# Altium integrated library Silicon Labs Modems and DAAs.IntLib: 95 symbols (part 4 of 7)
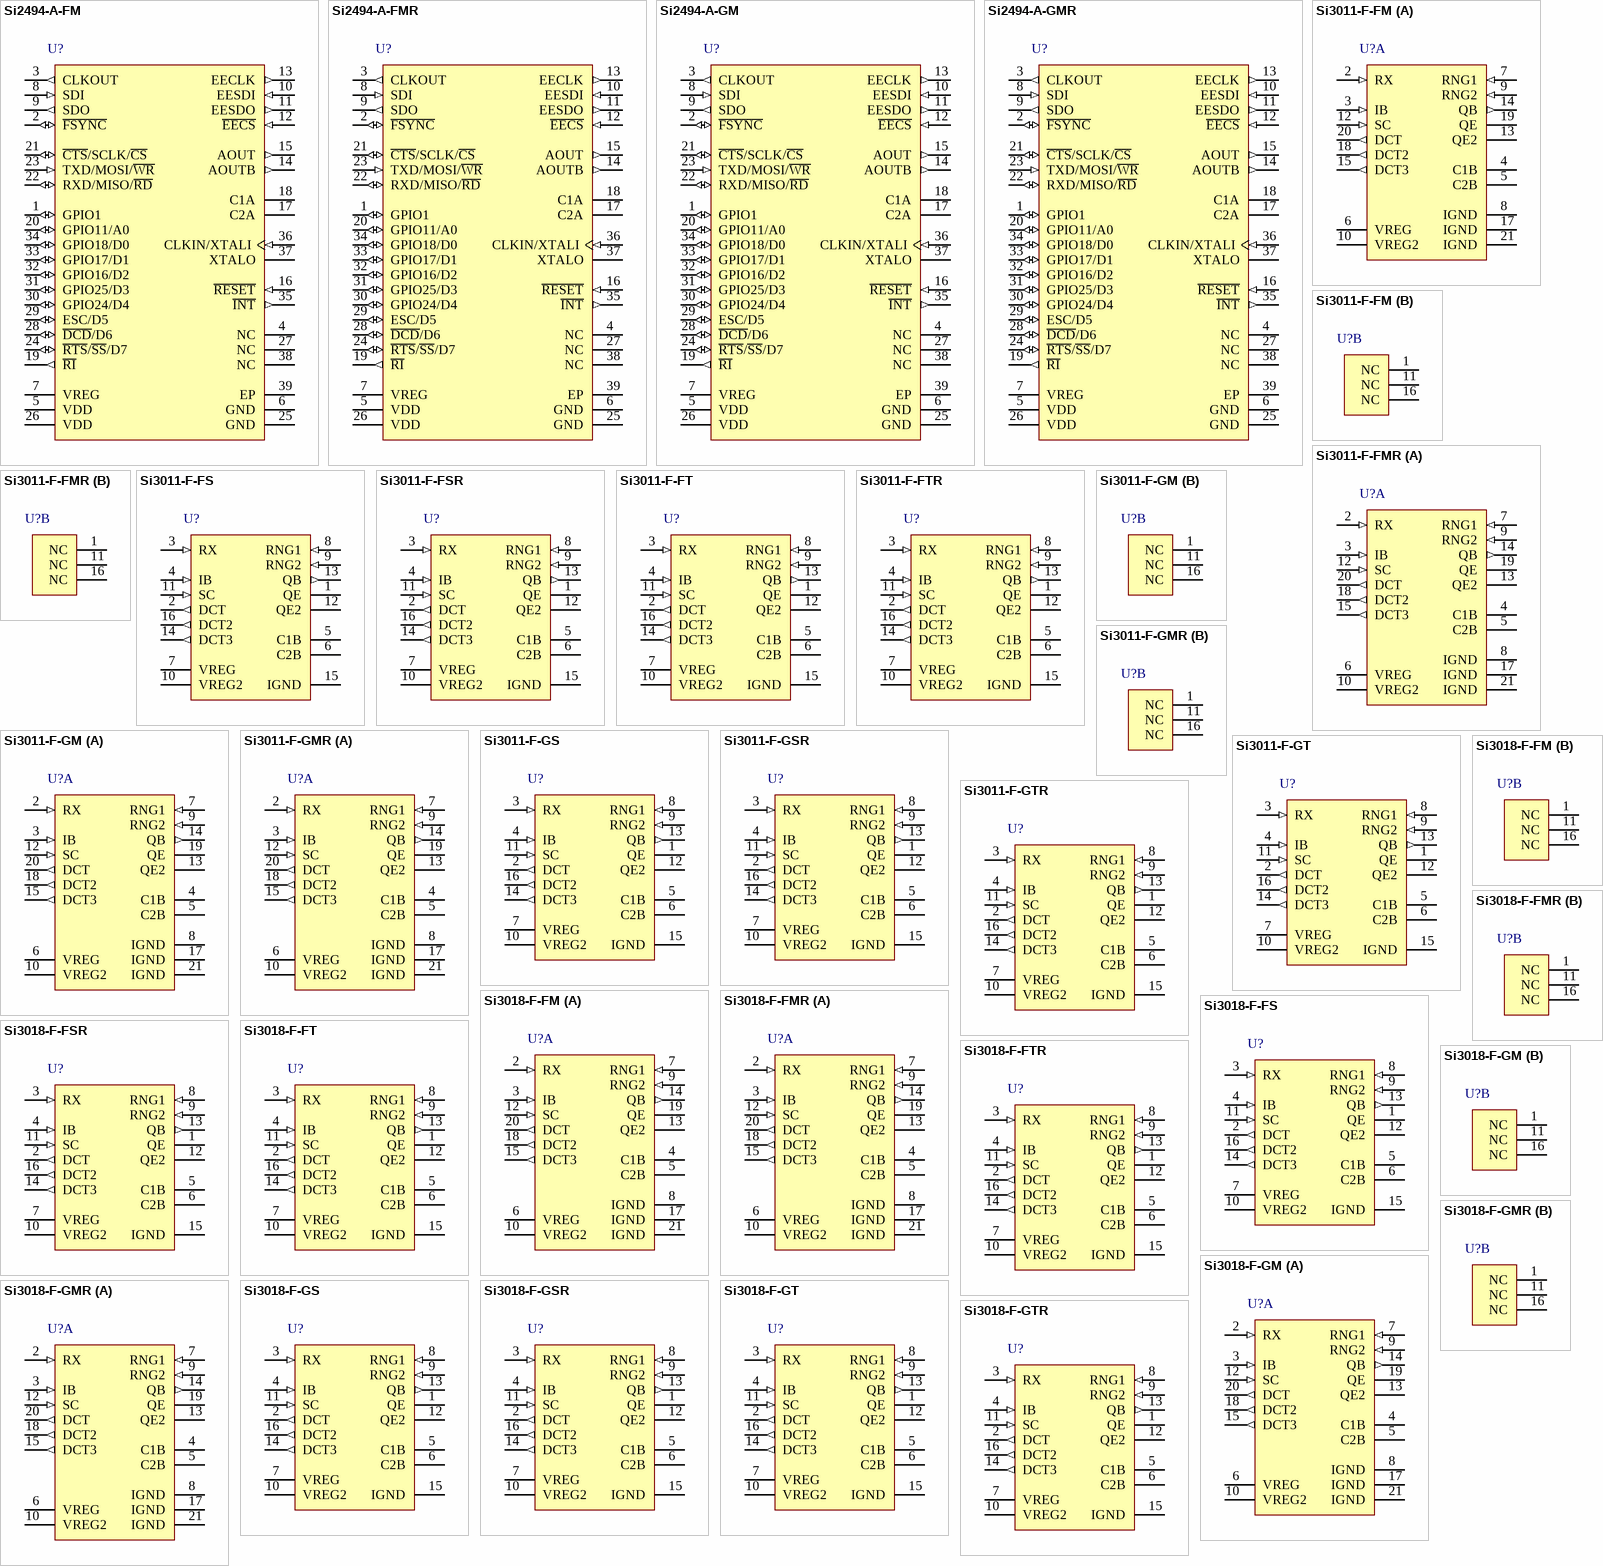
[diagram p7: symbols Si2494-A-FM to Si3018-F-GTR]

## Si3011-F-FS
designator U?
Programmable Voice DAA Solutions with Line Voltage Monitor, 0 to 70 degC, 16-pin SOIC, Tube; Manufacturer: Silicon Labs; PartNumber: Si3011-F-FS; AC Termination Settings: 2; Host Interface: GCI; PCM/SPI; Line Voltage Monitor: TRUE; Region: Global; Sub-Family: Silicon DAAs; DatasheetVersion: Rev. 1.5; PackageReference: SOIC-16-NB; PackageDescription: 16-Pin Small-Outline Integrated Circuit, Body 9.9 x 3.9 mm, Pitch 1.27 mm; Supplier 1: Digi-Key; Supplier Part Number 1: SI3011-F-FS-ND; Supplier 2: Mouser; Supplier Part Number 2: 634-SI3011-F-FS; Packing: Tube; Mounting Technology: Surface Mount; Code_JEDEC: MS-012; Code_IPC: J-STD-020; ComponentLink1Description: Manufacturer URL; ComponentLink1URL: http://www.silabs.com/; ComponentLink2Description: Datasheet; ComponentLink2URL: http://www.silabs.com/Support%20Documents/TechnicalDocs/Si3050-11-18-19.pdf; ComponentLink3Description: Package Specification; ComponentLink3URL: http://www.silabs.com/Support%20Documents/TechnicalDocs/si2401.pdf
footprint SLAB-SOIC-16-NB_N (SOIC, 16-Leads, Body 9.9x3.9mm, Pitch 1.27mm, IPC Medium Density)
footprint SLAB-SOIC-16-NB_L (SOIC, 16-Leads, Body 9.9x3.9mm, Pitch 1.27mm, IPC High Density)
footprint SLAB-SOIC-16-NB_M (SOIC, 16-Leads, Body 9.9x3.9mm, Pitch 1.27mm, IPC Low Density)
pins: 1 QE "Transistor Emitter. Connects to the emitter of Q3.", 2 DCT (out) "DC Termination. Provides dc termination to the telephone network.", 3 RX (in) "Receive Input. Serves as the receive side input from the telephone network.", 4 IB (in) "Internal Bias. Provides a bias voltage to the device.", 5 C1B "Isolation Capacitor 1B. Connects to one side of isolation capacitor C1. Used to communicate with the system-side device.", 6 C2B "Isolation Capacitor 2B. Connects to one side of isolation capacitor C2. Used to communicate with the system-side device.", 7 VREG (power) "Voltage Regulator. Connects to an external capacitor to provide bypassing for an internal power supply.", 8 RNG1 (in) "Ring 1. Connects through a resistor to the RING lead of the telephone line.", 9 RNG2 (in) "Ring 2. Connects through a resistor to the RING lead of the telephone line.", 10 VREG2 (power) "Voltage Regulator 2. Connects to an external capacitor to provide bypassing for an internal power supply.", 11 SC (in) "SC Connection. Enables external transistor network. Should be tied through a 0 ohm resistor to IGND.", 12 QE2 "Transistor Emitter 2. Connects to the emitter of Q4.", 13 QB (out) "Transistor Base. Connects to the base of transistor Q4.", 14 DCT3 (out) "DC Termination 3. Provides dc termination to the telephone network.", 15 IGND (power) "Isolated Ground.Connects to ground on the line-side interface.", 16 DCT2 (out) "DC Termination 2. Provides dc termination to the telephone network"

## Si3011-F-FSR
designator U?
Programmable Voice DAA Solutions with Line Voltage Monitor, 0 to 70 degC, 16-pin SOIC, Tape and Reel; Manufacturer: Silicon Labs; PartNumber: Si3011-F-FSR; AC Termination Settings: 2; Host Interface: GCI; PCM/SPI; Line Voltage Monitor: TRUE; Region: Global; Sub-Family: Silicon DAAs; DatasheetVersion: Rev. 1.5; PackageReference: SOIC-16-NB; PackageDescription: 16-Pin Small-Outline Integrated Circuit, Body 9.9 x 3.9 mm, Pitch 1.27 mm; Supplier 1: Digi-Key; Supplier Part Number 1: SI3011-F-FSR-ND; Supplier 2: Mouser; Supplier Part Number 2: 634-SI3011-F-FSR; Packing: Tape and Reel; Mounting Technology: Surface Mount; Code_JEDEC: MS-012; Code_IPC: J-STD-020; ComponentLink1Description: Manufacturer URL; ComponentLink1URL: http://www.silabs.com/; ComponentLink2Description: Datasheet; ComponentLink2URL: http://www.silabs.com/Support%20Documents/TechnicalDocs/Si3050-11-18-19.pdf; ComponentLink3Description: Package Specification; ComponentLink3URL: http://www.silabs.com/Support%20Documents/TechnicalDocs/si2401.pdf
footprint SLAB-SOIC-16-NB_N (SOIC, 16-Leads, Body 9.9x3.9mm, Pitch 1.27mm, IPC Medium Density)
footprint SLAB-SOIC-16-NB_L (SOIC, 16-Leads, Body 9.9x3.9mm, Pitch 1.27mm, IPC High Density)
footprint SLAB-SOIC-16-NB_M (SOIC, 16-Leads, Body 9.9x3.9mm, Pitch 1.27mm, IPC Low Density)
pins: 1 QE "Transistor Emitter. Connects to the emitter of Q3.", 2 DCT (out) "DC Termination. Provides dc termination to the telephone network.", 3 RX (in) "Receive Input. Serves as the receive side input from the telephone network.", 4 IB (in) "Internal Bias. Provides a bias voltage to the device.", 5 C1B "Isolation Capacitor 1B. Connects to one side of isolation capacitor C1. Used to communicate with the system-side device.", 6 C2B "Isolation Capacitor 2B. Connects to one side of isolation capacitor C2. Used to communicate with the system-side device.", 7 VREG (power) "Voltage Regulator. Connects to an external capacitor to provide bypassing for an internal power supply.", 8 RNG1 (in) "Ring 1. Connects through a resistor to the RING lead of the telephone line.", 9 RNG2 (in) "Ring 2. Connects through a resistor to the RING lead of the telephone line.", 10 VREG2 (power) "Voltage Regulator 2. Connects to an external capacitor to provide bypassing for an internal power supply.", 11 SC (in) "SC Connection. Enables external transistor network. Should be tied through a 0 ohm resistor to IGND.", 12 QE2 "Transistor Emitter 2. Connects to the emitter of Q4.", 13 QB (out) "Transistor Base. Connects to the base of transistor Q4.", 14 DCT3 (out) "DC Termination 3. Provides dc termination to the telephone network.", 15 IGND (power) "Isolated Ground.Connects to ground on the line-side interface.", 16 DCT2 (out) "DC Termination 2. Provides dc termination to the telephone network"

## Si3011-F-FT
designator U?
Programmable Voice DAA Solutions with Line Voltage Monitor, 0 to 70 degC, 16-pin SOP, Tube; Manufacturer: Silicon Labs; PartNumber: Si3011-F-FT; AC Termination Settings: 2; Host Interface: GCI; PCM/SPI; Line Voltage Monitor: TRUE; Region: Global; Sub-Family: Silicon DAAs; DatasheetVersion: Rev. 1.5; PackageReference: TSSOP-16; PackageDescription: 16-Pin Thin Shrink Small-Outline Package, Body 5 x 4.4 mm, Pitch 0.65 mm; Supplier 1: Mouser; Supplier Part Number 1: 634-SI3011-F-FT; Packing: Tube; Mounting Technology: Surface Mount; Code_JEDEC: MO-153; Code_IPC: J-STD-020C; ComponentLink1Description: Manufacturer URL; ComponentLink1URL: http://www.silabs.com/; ComponentLink2Description: Datasheet; ComponentLink2URL: http://www.silabs.com/Support%20Documents/TechnicalDocs/Si3050-11-18-19.pdf; ComponentLink3Description: Package Specification; ComponentLink3URL: http://www.silabs.com/Support%20Documents/TechnicalDocs/Si53360.pdf
footprint SLAB-TSSOP-16_N (SOP, 16-Leads, Body 5.1x4.5mm, Pitch 0.65mm, IPC Medium Density)
footprint SLAB-TSSOP-16_L (SOP, 16-Leads, Body 5.1x4.5mm, Pitch 0.65mm, IPC High Density)
footprint SLAB-TSSOP-16_M (SOP, 16-Leads, Body 5.1x4.5mm, Pitch 0.65mm, IPC Low Density)
pins: 1 QE "Transistor Emitter. Connects to the emitter of Q3.", 2 DCT (out) "DC Termination. Provides dc termination to the telephone network.", 3 RX (in) "Receive Input. Serves as the receive side input from the telephone network.", 4 IB (in) "Internal Bias. Provides a bias voltage to the device.", 5 C1B "Isolation Capacitor 1B. Connects to one side of isolation capacitor C1. Used to communicate with the system-side device.", 6 C2B "Isolation Capacitor 2B. Connects to one side of isolation capacitor C2. Used to communicate with the system-side device.", 7 VREG (power) "Voltage Regulator. Connects to an external capacitor to provide bypassing for an internal power supply.", 8 RNG1 (in) "Ring 1. Connects through a resistor to the RING lead of the telephone line.", 9 RNG2 (in) "Ring 2. Connects through a resistor to the RING lead of the telephone line.", 10 VREG2 (power) "Voltage Regulator 2. Connects to an external capacitor to provide bypassing for an internal power supply.", 11 SC (in) "SC Connection. Enables external transistor network. Should be tied through a 0 ohm resistor to IGND.", 12 QE2 "Transistor Emitter 2. Connects to the emitter of Q4.", 13 QB (out) "Transistor Base. Connects to the base of transistor Q4.", 14 DCT3 (out) "DC Termination 3. Provides dc termination to the telephone network.", 15 IGND (power) "Isolated Ground.Connects to ground on the line-side interface.", 16 DCT2 (out) "DC Termination 2. Provides dc termination to the telephone network"

## Si3011-F-FTR
designator U?
Programmable Voice DAA Solutions with Line Voltage Monitor, 0 to 70 degC, 16-pin SOP, Tape and Reel; Manufacturer: Silicon Labs; PartNumber: Si3011-F-FTR; AC Termination Settings: 2; Host Interface: GCI; PCM/SPI; Line Voltage Monitor: TRUE; Region: Global; Sub-Family: Silicon DAAs; DatasheetVersion: Rev. 1.5; PackageReference: TSSOP-16; PackageDescription: 16-Pin Thin Shrink Small-Outline Package, Body 5 x 4.4 mm, Pitch 0.65 mm; Packing: Tape and Reel; Mounting Technology: Surface Mount; Code_JEDEC: MO-153; Code_IPC: J-STD-020C; ComponentLink1Description: Manufacturer URL; ComponentLink1URL: http://www.silabs.com/; ComponentLink2Description: Datasheet; ComponentLink2URL: http://www.silabs.com/Support%20Documents/TechnicalDocs/Si3050-11-18-19.pdf; ComponentLink3Description: Package Specification; ComponentLink3URL: http://www.silabs.com/Support%20Documents/TechnicalDocs/Si53360.pdf
footprint SLAB-TSSOP-16_N (SOP, 16-Leads, Body 5.1x4.5mm, Pitch 0.65mm, IPC Medium Density)
footprint SLAB-TSSOP-16_L (SOP, 16-Leads, Body 5.1x4.5mm, Pitch 0.65mm, IPC High Density)
footprint SLAB-TSSOP-16_M (SOP, 16-Leads, Body 5.1x4.5mm, Pitch 0.65mm, IPC Low Density)
pins: 1 QE "Transistor Emitter. Connects to the emitter of Q3.", 2 DCT (out) "DC Termination. Provides dc termination to the telephone network.", 3 RX (in) "Receive Input. Serves as the receive side input from the telephone network.", 4 IB (in) "Internal Bias. Provides a bias voltage to the device.", 5 C1B "Isolation Capacitor 1B. Connects to one side of isolation capacitor C1. Used to communicate with the system-side device.", 6 C2B "Isolation Capacitor 2B. Connects to one side of isolation capacitor C2. Used to communicate with the system-side device.", 7 VREG (power) "Voltage Regulator. Connects to an external capacitor to provide bypassing for an internal power supply.", 8 RNG1 (in) "Ring 1. Connects through a resistor to the RING lead of the telephone line.", 9 RNG2 (in) "Ring 2. Connects through a resistor to the RING lead of the telephone line.", 10 VREG2 (power) "Voltage Regulator 2. Connects to an external capacitor to provide bypassing for an internal power supply.", 11 SC (in) "SC Connection. Enables external transistor network. Should be tied through a 0 ohm resistor to IGND.", 12 QE2 "Transistor Emitter 2. Connects to the emitter of Q4.", 13 QB (out) "Transistor Base. Connects to the base of transistor Q4.", 14 DCT3 (out) "DC Termination 3. Provides dc termination to the telephone network.", 15 IGND (power) "Isolated Ground.Connects to ground on the line-side interface.", 16 DCT2 (out) "DC Termination 2. Provides dc termination to the telephone network"

## Si3011-F-GM
designator U?
Programmable Voice DAA Solutions with Line Voltage Monitor, -40 to 85 degC, 20-pin QFN, Tube; Manufacturer: Silicon Labs; PartNumber: Si3011-F-GM; AC Termination Settings: 2; Host Interface: GCI; PCM/SPI; Line Voltage Monitor: TRUE; Region: Global; Sub-Family: Silicon DAAs; DatasheetVersion: Rev. 1.5; PackageReference: QFN-20; PackageDescription: 20-Pin Quad-Flat No-Leads Package, Body 3 x 3 mm, Pitch 0.5 mm; Packing: Tube; Mounting Technology: Surface Mount; Code_IPC: J-STD-020; ComponentLink1Description: Manufacturer URL; ComponentLink1URL: http://www.silabs.com/; ComponentLink2Description: Datasheet; ComponentLink2URL: http://www.silabs.com/Support%20Documents/TechnicalDocs/Si3050-11-18-19.pdf; ComponentLink3Description: Package Specification; ComponentLink3URL: http://www.silabs.com/Support%20Documents/TechnicalDocs/C8051F99x.pdf
footprint SLAB-QFN-20-1700x1700TP_V (QFN, 20-Leads, Body 3x3mm, Pitch 0.5mm, Thermal Pad 1.7x1.7mm)
part A pins: 2 RX (in) "Receive Input. Serves as the receive side input from the telephone network.", 3 IB (in) "Internal Bias. Provides a bias voltage to the device.", 4 C1B "Isolation Capacitor 1B. Connects to one side of isolation capacitor C1. Used to communicate with the system-side device.", 5 C2B "Isolation Capacitor 2B. Connects to one side of isolation capacitor C2. Used to communicate with the system-side device.", 6 VREG (power) "Voltage Regulator. Connects to an external capacitor to provide bypassing for an internal power supply.", 7 RNG1 (in) "Ring 1. Connects through a resistor to the TIP lead of the telephone line. Provides the ring and caller ID signals to the DAA.", 8 IGND (power) "Isolated Ground.Connects to ground on the line-side interface.", 9 RNG2 (in) "Ring 2. Connects through a resistor to the RING lead of the telephone line. Provides the ring and caller ID signals to the DAA.", 10 VREG2 (power) "Voltage Regulator 2. Connects to an external capacitor to provide bypassing for an internal power supply.", 12 SC (in) "SC Connection. Enables external transistor network. Should be tied through a 0 ohm resistor to IGND.", 13 QE2 "Transistor Emitter 2. Connects to the emitter of Q4.", 14 QB (out) "Transistor Base. Connects to the base of transistor Q4.", 15 DCT3 (out) "DC Termination 3. Provides dc termination to the telephone network.", 17 IGND (power) "Isolated Ground.Connects to ground on the line-side interface.", 18 DCT2 (out) "DC Termination 2. Provides dc termination to the telephone network", 19 QE "Transistor Emitter. Connects to the emitter of Q3.", 20 DCT (out) "DC Termination. Provides dc termination to the telephone network.", 21 IGND (power)
part B pins: 1 NC "No connect.", 11 NC "No connect.", 16 NC "No connect."

## Si3011-F-GMR
designator U?
Programmable Voice DAA Solutions with Line Voltage Monitor, -40 to 85 degC, 20-pin QFN, Tape and Reel; Manufacturer: Silicon Labs; PartNumber: Si3011-F-GMR; AC Termination Settings: 2; Host Interface: GCI; PCM/SPI; Line Voltage Monitor: TRUE; Region: Global; Sub-Family: Silicon DAAs; DatasheetVersion: Rev. 1.5; PackageReference: QFN-20; PackageDescription: 20-Pin Quad-Flat No-Leads Package, Body 3 x 3 mm, Pitch 0.5 mm; Packing: Tape and Reel; Mounting Technology: Surface Mount; Code_IPC: J-STD-020; ComponentLink1Description: Manufacturer URL; ComponentLink1URL: http://www.silabs.com/; ComponentLink2Description: Datasheet; ComponentLink2URL: http://www.silabs.com/Support%20Documents/TechnicalDocs/Si3050-11-18-19.pdf; ComponentLink3Description: Package Specification; ComponentLink3URL: http://www.silabs.com/Support%20Documents/TechnicalDocs/C8051F99x.pdf
footprint SLAB-QFN-20-1700x1700TP_V (QFN, 20-Leads, Body 3x3mm, Pitch 0.5mm, Thermal Pad 1.7x1.7mm)
part A pins: 2 RX (in) "Receive Input. Serves as the receive side input from the telephone network.", 3 IB (in) "Internal Bias. Provides a bias voltage to the device.", 4 C1B "Isolation Capacitor 1B. Connects to one side of isolation capacitor C1. Used to communicate with the system-side device.", 5 C2B "Isolation Capacitor 2B. Connects to one side of isolation capacitor C2. Used to communicate with the system-side device.", 6 VREG (power) "Voltage Regulator. Connects to an external capacitor to provide bypassing for an internal power supply.", 7 RNG1 (in) "Ring 1. Connects through a resistor to the TIP lead of the telephone line. Provides the ring and caller ID signals to the DAA.", 8 IGND (power) "Isolated Ground.Connects to ground on the line-side interface.", 9 RNG2 (in) "Ring 2. Connects through a resistor to the RING lead of the telephone line. Provides the ring and caller ID signals to the DAA.", 10 VREG2 (power) "Voltage Regulator 2. Connects to an external capacitor to provide bypassing for an internal power supply.", 12 SC (in) "SC Connection. Enables external transistor network. Should be tied through a 0 ohm resistor to IGND.", 13 QE2 "Transistor Emitter 2. Connects to the emitter of Q4.", 14 QB (out) "Transistor Base. Connects to the base of transistor Q4.", 15 DCT3 (out) "DC Termination 3. Provides dc termination to the telephone network.", 17 IGND (power) "Isolated Ground.Connects to ground on the line-side interface.", 18 DCT2 (out) "DC Termination 2. Provides dc termination to the telephone network", 19 QE "Transistor Emitter. Connects to the emitter of Q3.", 20 DCT (out) "DC Termination. Provides dc termination to the telephone network.", 21 IGND (power)
part B pins: 1 NC "No connect.", 11 NC "No connect.", 16 NC "No connect."

## Si3011-F-GS
designator U?
Programmable Voice DAA Solutions with Line Voltage Monitor, -40 to 85 degC, 16-pin SOIC, Tube; Manufacturer: Silicon Labs; PartNumber: Si3011-F-GS; AC Termination Settings: 2; Host Interface: GCI; PCM/SPI; Line Voltage Monitor: TRUE; Region: Global; Sub-Family: Silicon DAAs; DatasheetVersion: Rev. 1.5; PackageReference: SOIC-16-NB; PackageDescription: 16-Pin Small-Outline Integrated Circuit, Body 9.9 x 3.9 mm, Pitch 1.27 mm; Packing: Tube; Mounting Technology: Surface Mount; Code_JEDEC: MS-012; Code_IPC: J-STD-020; ComponentLink1Description: Manufacturer URL; ComponentLink1URL: http://www.silabs.com/; ComponentLink2Description: Datasheet; ComponentLink2URL: http://www.silabs.com/Support%20Documents/TechnicalDocs/Si3050-11-18-19.pdf; ComponentLink3Description: Package Specification; ComponentLink3URL: http://www.silabs.com/Support%20Documents/TechnicalDocs/si2401.pdf
footprint SLAB-SOIC-16-NB_N (SOIC, 16-Leads, Body 9.9x3.9mm, Pitch 1.27mm, IPC Medium Density)
footprint SLAB-SOIC-16-NB_L (SOIC, 16-Leads, Body 9.9x3.9mm, Pitch 1.27mm, IPC High Density)
footprint SLAB-SOIC-16-NB_M (SOIC, 16-Leads, Body 9.9x3.9mm, Pitch 1.27mm, IPC Low Density)
pins: 1 QE "Transistor Emitter. Connects to the emitter of Q3.", 2 DCT (out) "DC Termination. Provides dc termination to the telephone network.", 3 RX (in) "Receive Input. Serves as the receive side input from the telephone network.", 4 IB (in) "Internal Bias. Provides a bias voltage to the device.", 5 C1B "Isolation Capacitor 1B. Connects to one side of isolation capacitor C1. Used to communicate with the system-side device.", 6 C2B "Isolation Capacitor 2B. Connects to one side of isolation capacitor C2. Used to communicate with the system-side device.", 7 VREG (power) "Voltage Regulator. Connects to an external capacitor to provide bypassing for an internal power supply.", 8 RNG1 (in) "Ring 1. Connects through a resistor to the RING lead of the telephone line.", 9 RNG2 (in) "Ring 2. Connects through a resistor to the RING lead of the telephone line.", 10 VREG2 (power) "Voltage Regulator 2. Connects to an external capacitor to provide bypassing for an internal power supply.", 11 SC (in) "SC Connection. Enables external transistor network. Should be tied through a 0 ohm resistor to IGND.", 12 QE2 "Transistor Emitter 2. Connects to the emitter of Q4.", 13 QB (out) "Transistor Base. Connects to the base of transistor Q4.", 14 DCT3 (out) "DC Termination 3. Provides dc termination to the telephone network.", 15 IGND (power) "Isolated Ground.Connects to ground on the line-side interface.", 16 DCT2 (out) "DC Termination 2. Provides dc termination to the telephone network"

## Si3011-F-GSR
designator U?
Programmable Voice DAA Solutions with Line Voltage Monitor, -40 to 85 degC, 16-pin SOIC, Tape and Reel; Manufacturer: Silicon Labs; PartNumber: Si3011-F-GSR; AC Termination Settings: 2; Host Interface: GCI; PCM/SPI; Line Voltage Monitor: TRUE; Region: Global; Sub-Family: Silicon DAAs; DatasheetVersion: Rev. 1.5; PackageReference: SOIC-16-NB; PackageDescription: 16-Pin Small-Outline Integrated Circuit, Body 9.9 x 3.9 mm, Pitch 1.27 mm; Packing: Tape and Reel; Mounting Technology: Surface Mount; Code_JEDEC: MS-012; Code_IPC: J-STD-020; ComponentLink1Description: Manufacturer URL; ComponentLink1URL: http://www.silabs.com/; ComponentLink2Description: Datasheet; ComponentLink2URL: http://www.silabs.com/Support%20Documents/TechnicalDocs/Si3050-11-18-19.pdf; ComponentLink3Description: Package Specification; ComponentLink3URL: http://www.silabs.com/Support%20Documents/TechnicalDocs/si2401.pdf
footprint SLAB-SOIC-16-NB_N (SOIC, 16-Leads, Body 9.9x3.9mm, Pitch 1.27mm, IPC Medium Density)
footprint SLAB-SOIC-16-NB_L (SOIC, 16-Leads, Body 9.9x3.9mm, Pitch 1.27mm, IPC High Density)
footprint SLAB-SOIC-16-NB_M (SOIC, 16-Leads, Body 9.9x3.9mm, Pitch 1.27mm, IPC Low Density)
pins: 1 QE "Transistor Emitter. Connects to the emitter of Q3.", 2 DCT (out) "DC Termination. Provides dc termination to the telephone network.", 3 RX (in) "Receive Input. Serves as the receive side input from the telephone network.", 4 IB (in) "Internal Bias. Provides a bias voltage to the device.", 5 C1B "Isolation Capacitor 1B. Connects to one side of isolation capacitor C1. Used to communicate with the system-side device.", 6 C2B "Isolation Capacitor 2B. Connects to one side of isolation capacitor C2. Used to communicate with the system-side device.", 7 VREG (power) "Voltage Regulator. Connects to an external capacitor to provide bypassing for an internal power supply.", 8 RNG1 (in) "Ring 1. Connects through a resistor to the RING lead of the telephone line.", 9 RNG2 (in) "Ring 2. Connects through a resistor to the RING lead of the telephone line.", 10 VREG2 (power) "Voltage Regulator 2. Connects to an external capacitor to provide bypassing for an internal power supply.", 11 SC (in) "SC Connection. Enables external transistor network. Should be tied through a 0 ohm resistor to IGND.", 12 QE2 "Transistor Emitter 2. Connects to the emitter of Q4.", 13 QB (out) "Transistor Base. Connects to the base of transistor Q4.", 14 DCT3 (out) "DC Termination 3. Provides dc termination to the telephone network.", 15 IGND (power) "Isolated Ground.Connects to ground on the line-side interface.", 16 DCT2 (out) "DC Termination 2. Provides dc termination to the telephone network"

## Si3011-F-GT
designator U?
Programmable Voice DAA Solutions with Line Voltage Monitor, -40 to 85 degC, 16-pin SOP, Tube; Manufacturer: Silicon Labs; PartNumber: Si3011-F-GT; AC Termination Settings: 2; Host Interface: GCI; PCM/SPI; Line Voltage Monitor: TRUE; Region: Global; Sub-Family: Silicon DAAs; DatasheetVersion: Rev. 1.5; PackageReference: TSSOP-16; PackageDescription: 16-Pin Thin Shrink Small-Outline Package, Body 5 x 4.4 mm, Pitch 0.65 mm; Packing: Tube; Mounting Technology: Surface Mount; Code_JEDEC: MO-153; Code_IPC: J-STD-020C; ComponentLink1Description: Manufacturer URL; ComponentLink1URL: http://www.silabs.com/; ComponentLink2Description: Datasheet; ComponentLink2URL: http://www.silabs.com/Support%20Documents/TechnicalDocs/Si3050-11-18-19.pdf; ComponentLink3Description: Package Specification; ComponentLink3URL: http://www.silabs.com/Support%20Documents/TechnicalDocs/Si53360.pdf
footprint SLAB-TSSOP-16_N (SOP, 16-Leads, Body 5.1x4.5mm, Pitch 0.65mm, IPC Medium Density)
footprint SLAB-TSSOP-16_L (SOP, 16-Leads, Body 5.1x4.5mm, Pitch 0.65mm, IPC High Density)
footprint SLAB-TSSOP-16_M (SOP, 16-Leads, Body 5.1x4.5mm, Pitch 0.65mm, IPC Low Density)
pins: 1 QE "Transistor Emitter. Connects to the emitter of Q3.", 2 DCT (out) "DC Termination. Provides dc termination to the telephone network.", 3 RX (in) "Receive Input. Serves as the receive side input from the telephone network.", 4 IB (in) "Internal Bias. Provides a bias voltage to the device.", 5 C1B "Isolation Capacitor 1B. Connects to one side of isolation capacitor C1. Used to communicate with the system-side device.", 6 C2B "Isolation Capacitor 2B. Connects to one side of isolation capacitor C2. Used to communicate with the system-side device.", 7 VREG (power) "Voltage Regulator. Connects to an external capacitor to provide bypassing for an internal power supply.", 8 RNG1 (in) "Ring 1. Connects through a resistor to the RING lead of the telephone line.", 9 RNG2 (in) "Ring 2. Connects through a resistor to the RING lead of the telephone line.", 10 VREG2 (power) "Voltage Regulator 2. Connects to an external capacitor to provide bypassing for an internal power supply.", 11 SC (in) "SC Connection. Enables external transistor network. Should be tied through a 0 ohm resistor to IGND.", 12 QE2 "Transistor Emitter 2. Connects to the emitter of Q4.", 13 QB (out) "Transistor Base. Connects to the base of transistor Q4.", 14 DCT3 (out) "DC Termination 3. Provides dc termination to the telephone network.", 15 IGND (power) "Isolated Ground.Connects to ground on the line-side interface.", 16 DCT2 (out) "DC Termination 2. Provides dc termination to the telephone network"

## Si3011-F-GTR
designator U?
Programmable Voice DAA Solutions with Line Voltage Monitor, -40 to 85 degC, 16-pin SOP, Tape and Reel; Manufacturer: Silicon Labs; PartNumber: Si3011-F-GTR; AC Termination Settings: 2; Host Interface: GCI; PCM/SPI; Line Voltage Monitor: TRUE; Region: Global; Sub-Family: Silicon DAAs; DatasheetVersion: Rev. 1.5; PackageReference: TSSOP-16; PackageDescription: 16-Pin Thin Shrink Small-Outline Package, Body 5 x 4.4 mm, Pitch 0.65 mm; Packing: Tape and Reel; Mounting Technology: Surface Mount; Code_JEDEC: MO-153; Code_IPC: J-STD-020C; ComponentLink1Description: Manufacturer URL; ComponentLink1URL: http://www.silabs.com/; ComponentLink2Description: Datasheet; ComponentLink2URL: http://www.silabs.com/Support%20Documents/TechnicalDocs/Si3050-11-18-19.pdf; ComponentLink3Description: Package Specification; ComponentLink3URL: http://www.silabs.com/Support%20Documents/TechnicalDocs/Si53360.pdf
footprint SLAB-TSSOP-16_N (SOP, 16-Leads, Body 5.1x4.5mm, Pitch 0.65mm, IPC Medium Density)
footprint SLAB-TSSOP-16_L (SOP, 16-Leads, Body 5.1x4.5mm, Pitch 0.65mm, IPC High Density)
footprint SLAB-TSSOP-16_M (SOP, 16-Leads, Body 5.1x4.5mm, Pitch 0.65mm, IPC Low Density)
pins: 1 QE "Transistor Emitter. Connects to the emitter of Q3.", 2 DCT (out) "DC Termination. Provides dc termination to the telephone network.", 3 RX (in) "Receive Input. Serves as the receive side input from the telephone network.", 4 IB (in) "Internal Bias. Provides a bias voltage to the device.", 5 C1B "Isolation Capacitor 1B. Connects to one side of isolation capacitor C1. Used to communicate with the system-side device.", 6 C2B "Isolation Capacitor 2B. Connects to one side of isolation capacitor C2. Used to communicate with the system-side device.", 7 VREG (power) "Voltage Regulator. Connects to an external capacitor to provide bypassing for an internal power supply.", 8 RNG1 (in) "Ring 1. Connects through a resistor to the RING lead of the telephone line.", 9 RNG2 (in) "Ring 2. Connects through a resistor to the RING lead of the telephone line.", 10 VREG2 (power) "Voltage Regulator 2. Connects to an external capacitor to provide bypassing for an internal power supply.", 11 SC (in) "SC Connection. Enables external transistor network. Should be tied through a 0 ohm resistor to IGND.", 12 QE2 "Transistor Emitter 2. Connects to the emitter of Q4.", 13 QB (out) "Transistor Base. Connects to the base of transistor Q4.", 14 DCT3 (out) "DC Termination 3. Provides dc termination to the telephone network.", 15 IGND (power) "Isolated Ground.Connects to ground on the line-side interface.", 16 DCT2 (out) "DC Termination 2. Provides dc termination to the telephone network"

## Si3018-F-FM
designator U?
Programmable Voice DAA Solutions with Line Voltage Monitor, 0 to 70 degC, 20-pin QFN, Tube; Manufacturer: Silicon Labs; PartNumber: Si3018-F-FM; AC Termination Settings: 4; Host Interface: GCI; PCM/SPI; Line Voltage Monitor: TRUE; Region: Global; Sub-Family: Silicon DAAs; DatasheetVersion: Rev. 1.5; PackageReference: QFN-20; PackageDescription: 20-Pin Quad-Flat No-Leads Package, Body 3 x 3 mm, Pitch 0.5 mm; Packing: Tube; Mounting Technology: Surface Mount; Code_IPC: J-STD-020; ComponentLink1Description: Manufacturer URL; ComponentLink1URL: http://www.silabs.com/; ComponentLink2Description: Datasheet; ComponentLink2URL: http://www.silabs.com/Support%20Documents/TechnicalDocs/Si3050-11-18-19.pdf; ComponentLink3Description: Package Specification; ComponentLink3URL: http://www.silabs.com/Support%20Documents/TechnicalDocs/C8051F99x.pdf
footprint SLAB-QFN-20-1700x1700TP_V (QFN, 20-Leads, Body 3x3mm, Pitch 0.5mm, Thermal Pad 1.7x1.7mm)
part A pins: 2 RX (in) "Receive Input. Serves as the receive side input from the telephone network.", 3 IB (in) "Internal Bias. Provides a bias voltage to the device.", 4 C1B "Isolation Capacitor 1B. Connects to one side of isolation capacitor C1. Used to communicate with the system-side device.", 5 C2B "Isolation Capacitor 2B. Connects to one side of isolation capacitor C2. Used to communicate with the system-side device.", 6 VREG (power) "Voltage Regulator. Connects to an external capacitor to provide bypassing for an internal power supply.", 7 RNG1 (in) "Ring 1. Connects through a resistor to the TIP lead of the telephone line. Provides the ring and caller ID signals to the DAA.", 8 IGND (power) "Isolated Ground.Connects to ground on the line-side interface.", 9 RNG2 (in) "Ring 2. Connects through a resistor to the RING lead of the telephone line. Provides the ring and caller ID signals to the DAA.", 10 VREG2 (power) "Voltage Regulator 2. Connects to an external capacitor to provide bypassing for an internal power supply.", 12 SC (in) "SC Connection. Enables external transistor network. Should be tied through a 0 ohm resistor to IGND.", 13 QE2 "Transistor Emitter 2. Connects to the emitter of Q4.", 14 QB (out) "Transistor Base. Connects to the base of transistor Q4.", 15 DCT3 (out) "DC Termination 3. Provides dc termination to the telephone network.", 17 IGND (power) "Isolated Ground.Connects to ground on the line-side interface.", 18 DCT2 (out) "DC Termination 2. Provides dc termination to the telephone network", 19 QE "Transistor Emitter. Connects to the emitter of Q3.", 20 DCT (out) "DC Termination. Provides dc termination to the telephone network.", 21 IGND (power)
part B pins: 1 NC "No connect.", 11 NC "No connect.", 16 NC "No connect."

## Si3018-F-FMR
designator U?
Programmable Voice DAA Solutions with Line Voltage Monitor, 0 to 70 degC, 20-pin QFN, Tape and Reel; Manufacturer: Silicon Labs; PartNumber: Si3018-F-FMR; AC Termination Settings: 4; Host Interface: GCI; PCM/SPI; Line Voltage Monitor: TRUE; Region: Global; Sub-Family: Silicon DAAs; DatasheetVersion: Rev. 1.5; PackageReference: QFN-20; PackageDescription: 20-Pin Quad-Flat No-Leads Package, Body 3 x 3 mm, Pitch 0.5 mm; Packing: Tape and Reel; Mounting Technology: Surface Mount; Code_IPC: J-STD-020; ComponentLink1Description: Manufacturer URL; ComponentLink1URL: http://www.silabs.com/; ComponentLink2Description: Datasheet; ComponentLink2URL: http://www.silabs.com/Support%20Documents/TechnicalDocs/Si3050-11-18-19.pdf; ComponentLink3Description: Package Specification; ComponentLink3URL: http://www.silabs.com/Support%20Documents/TechnicalDocs/C8051F99x.pdf
footprint SLAB-QFN-20-1700x1700TP_V (QFN, 20-Leads, Body 3x3mm, Pitch 0.5mm, Thermal Pad 1.7x1.7mm)
part A pins: 2 RX (in) "Receive Input. Serves as the receive side input from the telephone network.", 3 IB (in) "Internal Bias. Provides a bias voltage to the device.", 4 C1B "Isolation Capacitor 1B. Connects to one side of isolation capacitor C1. Used to communicate with the system-side device.", 5 C2B "Isolation Capacitor 2B. Connects to one side of isolation capacitor C2. Used to communicate with the system-side device.", 6 VREG (power) "Voltage Regulator. Connects to an external capacitor to provide bypassing for an internal power supply.", 7 RNG1 (in) "Ring 1. Connects through a resistor to the TIP lead of the telephone line. Provides the ring and caller ID signals to the DAA.", 8 IGND (power) "Isolated Ground.Connects to ground on the line-side interface.", 9 RNG2 (in) "Ring 2. Connects through a resistor to the RING lead of the telephone line. Provides the ring and caller ID signals to the DAA.", 10 VREG2 (power) "Voltage Regulator 2. Connects to an external capacitor to provide bypassing for an internal power supply.", 12 SC (in) "SC Connection. Enables external transistor network. Should be tied through a 0 ohm resistor to IGND.", 13 QE2 "Transistor Emitter 2. Connects to the emitter of Q4.", 14 QB (out) "Transistor Base. Connects to the base of transistor Q4.", 15 DCT3 (out) "DC Termination 3. Provides dc termination to the telephone network.", 17 IGND (power) "Isolated Ground.Connects to ground on the line-side interface.", 18 DCT2 (out) "DC Termination 2. Provides dc termination to the telephone network", 19 QE "Transistor Emitter. Connects to the emitter of Q3.", 20 DCT (out) "DC Termination. Provides dc termination to the telephone network.", 21 IGND (power)
part B pins: 1 NC "No connect.", 11 NC "No connect.", 16 NC "No connect."

## Si3018-F-FS
designator U?
Programmable Voice DAA Solutions with Line Voltage Monitor, 0 to 70 degC, 16-pin SOIC, Tube; Manufacturer: Silicon Labs; PartNumber: Si3018-F-FS; AC Termination Settings: 4; Host Interface: GCI; PCM/SPI; Line Voltage Monitor: TRUE; Region: Global; Sub-Family: Silicon DAAs; DatasheetVersion: Rev. 1.5; PackageReference: SOIC-16-NB; PackageDescription: 16-Pin Small-Outline Integrated Circuit, Body 9.9 x 3.9 mm, Pitch 1.27 mm; Supplier 1: Digi-Key; Supplier Part Number 1: SI3018-F-FS-ND; Supplier 2: Mouser; Supplier Part Number 2: 634-SI3018-F-FS; Packing: Tube; Mounting Technology: Surface Mount; Code_JEDEC: MS-012; Code_IPC: J-STD-020; ComponentLink1Description: Manufacturer URL; ComponentLink1URL: http://www.silabs.com/; ComponentLink2Description: Datasheet; ComponentLink2URL: http://www.silabs.com/Support%20Documents/TechnicalDocs/Si3050-11-18-19.pdf; ComponentLink3Description: Package Specification; ComponentLink3URL: http://www.silabs.com/Support%20Documents/TechnicalDocs/si2401.pdf
footprint SLAB-SOIC-16-NB_N (SOIC, 16-Leads, Body 9.9x3.9mm, Pitch 1.27mm, IPC Medium Density)
footprint SLAB-SOIC-16-NB_L (SOIC, 16-Leads, Body 9.9x3.9mm, Pitch 1.27mm, IPC High Density)
footprint SLAB-SOIC-16-NB_M (SOIC, 16-Leads, Body 9.9x3.9mm, Pitch 1.27mm, IPC Low Density)
pins: 1 QE "Transistor Emitter. Connects to the emitter of Q3.", 2 DCT (out) "DC Termination. Provides dc termination to the telephone network.", 3 RX (in) "Receive Input. Serves as the receive side input from the telephone network.", 4 IB (in) "Internal Bias. Provides a bias voltage to the device.", 5 C1B "Isolation Capacitor 1B. Connects to one side of isolation capacitor C1. Used to communicate with the system-side device.", 6 C2B "Isolation Capacitor 2B. Connects to one side of isolation capacitor C2. Used to communicate with the system-side device.", 7 VREG (power) "Voltage Regulator. Connects to an external capacitor to provide bypassing for an internal power supply.", 8 RNG1 (in) "Ring 1. Connects through a resistor to the RING lead of the telephone line.", 9 RNG2 (in) "Ring 2. Connects through a resistor to the RING lead of the telephone line.", 10 VREG2 (power) "Voltage Regulator 2. Connects to an external capacitor to provide bypassing for an internal power supply.", 11 SC (in) "SC Connection. Enables external transistor network. Should be tied through a 0 ohm resistor to IGND.", 12 QE2 "Transistor Emitter 2. Connects to the emitter of Q4.", 13 QB (out) "Transistor Base. Connects to the base of transistor Q4.", 14 DCT3 (out) "DC Termination 3. Provides dc termination to the telephone network.", 15 IGND (power) "Isolated Ground.Connects to ground on the line-side interface.", 16 DCT2 (out) "DC Termination 2. Provides dc termination to the telephone network"

## Si3018-F-FSR
designator U?
Programmable Voice DAA Solutions with Line Voltage Monitor, 0 to 70 degC, 16-pin SOIC, Tape and Reel; Manufacturer: Silicon Labs; PartNumber: Si3018-F-FSR; AC Termination Settings: 4; Host Interface: GCI; PCM/SPI; Line Voltage Monitor: TRUE; Region: Global; Sub-Family: Silicon DAAs; DatasheetVersion: Rev. 1.5; PackageReference: SOIC-16-NB; PackageDescription: 16-Pin Small-Outline Integrated Circuit, Body 9.9 x 3.9 mm, Pitch 1.27 mm; Supplier 1: Digi-Key; Supplier Part Number 1: SI3018-F-FSR-ND; Supplier 2: Mouser; Supplier Part Number 2: N/A; Packing: Tape and Reel; Mounting Technology: Surface Mount; Code_JEDEC: MS-012; Code_IPC: J-STD-020; ComponentLink1Description: Manufacturer URL; ComponentLink1URL: http://www.silabs.com/; ComponentLink2Description: Datasheet; ComponentLink2URL: http://www.silabs.com/Support%20Documents/TechnicalDocs/Si3050-11-18-19.pdf; ComponentLink3Description: Package Specification; ComponentLink3URL: http://www.silabs.com/Support%20Documents/TechnicalDocs/si2401.pdf
footprint SLAB-SOIC-16-NB_N (SOIC, 16-Leads, Body 9.9x3.9mm, Pitch 1.27mm, IPC Medium Density)
footprint SLAB-SOIC-16-NB_L (SOIC, 16-Leads, Body 9.9x3.9mm, Pitch 1.27mm, IPC High Density)
footprint SLAB-SOIC-16-NB_M (SOIC, 16-Leads, Body 9.9x3.9mm, Pitch 1.27mm, IPC Low Density)
pins: 1 QE "Transistor Emitter. Connects to the emitter of Q3.", 2 DCT (out) "DC Termination. Provides dc termination to the telephone network.", 3 RX (in) "Receive Input. Serves as the receive side input from the telephone network.", 4 IB (in) "Internal Bias. Provides a bias voltage to the device.", 5 C1B "Isolation Capacitor 1B. Connects to one side of isolation capacitor C1. Used to communicate with the system-side device.", 6 C2B "Isolation Capacitor 2B. Connects to one side of isolation capacitor C2. Used to communicate with the system-side device.", 7 VREG (power) "Voltage Regulator. Connects to an external capacitor to provide bypassing for an internal power supply.", 8 RNG1 (in) "Ring 1. Connects through a resistor to the RING lead of the telephone line.", 9 RNG2 (in) "Ring 2. Connects through a resistor to the RING lead of the telephone line.", 10 VREG2 (power) "Voltage Regulator 2. Connects to an external capacitor to provide bypassing for an internal power supply.", 11 SC (in) "SC Connection. Enables external transistor network. Should be tied through a 0 ohm resistor to IGND.", 12 QE2 "Transistor Emitter 2. Connects to the emitter of Q4.", 13 QB (out) "Transistor Base. Connects to the base of transistor Q4.", 14 DCT3 (out) "DC Termination 3. Provides dc termination to the telephone network.", 15 IGND (power) "Isolated Ground.Connects to ground on the line-side interface.", 16 DCT2 (out) "DC Termination 2. Provides dc termination to the telephone network"

## Si3018-F-FT
designator U?
Programmable Voice DAA Solutions with Line Voltage Monitor, 0 to 70 degC, 16-pin SOP, Tube; Manufacturer: Silicon Labs; PartNumber: Si3018-F-FT; AC Termination Settings: 4; Host Interface: GCI; PCM/SPI; Line Voltage Monitor: TRUE; Region: Global; Sub-Family: Silicon DAAs; DatasheetVersion: Rev. 1.5; PackageReference: TSSOP-16; PackageDescription: 16-Pin Thin Shrink Small-Outline Package, Body 5 x 4.4 mm, Pitch 0.65 mm; Supplier 1: Digi-Key; Supplier Part Number 1: SI3018-F-FT-ND; Supplier 2: Mouser; Supplier Part Number 2: 634-SI3018-F-FT; Packing: Tube; Mounting Technology: Surface Mount; Code_JEDEC: MO-153; Code_IPC: J-STD-020C; ComponentLink1Description: Manufacturer URL; ComponentLink1URL: http://www.silabs.com/; ComponentLink2Description: Datasheet; ComponentLink2URL: http://www.silabs.com/Support%20Documents/TechnicalDocs/Si3050-11-18-19.pdf; ComponentLink3Description: Package Specification; ComponentLink3URL: http://www.silabs.com/Support%20Documents/TechnicalDocs/Si53360.pdf
footprint SLAB-TSSOP-16_N (SOP, 16-Leads, Body 5.1x4.5mm, Pitch 0.65mm, IPC Medium Density)
footprint SLAB-TSSOP-16_L (SOP, 16-Leads, Body 5.1x4.5mm, Pitch 0.65mm, IPC High Density)
footprint SLAB-TSSOP-16_M (SOP, 16-Leads, Body 5.1x4.5mm, Pitch 0.65mm, IPC Low Density)
pins: 1 QE "Transistor Emitter. Connects to the emitter of Q3.", 2 DCT (out) "DC Termination. Provides dc termination to the telephone network.", 3 RX (in) "Receive Input. Serves as the receive side input from the telephone network.", 4 IB (in) "Internal Bias. Provides a bias voltage to the device.", 5 C1B "Isolation Capacitor 1B. Connects to one side of isolation capacitor C1. Used to communicate with the system-side device.", 6 C2B "Isolation Capacitor 2B. Connects to one side of isolation capacitor C2. Used to communicate with the system-side device.", 7 VREG (power) "Voltage Regulator. Connects to an external capacitor to provide bypassing for an internal power supply.", 8 RNG1 (in) "Ring 1. Connects through a resistor to the RING lead of the telephone line.", 9 RNG2 (in) "Ring 2. Connects through a resistor to the RING lead of the telephone line.", 10 VREG2 (power) "Voltage Regulator 2. Connects to an external capacitor to provide bypassing for an internal power supply.", 11 SC (in) "SC Connection. Enables external transistor network. Should be tied through a 0 ohm resistor to IGND.", 12 QE2 "Transistor Emitter 2. Connects to the emitter of Q4.", 13 QB (out) "Transistor Base. Connects to the base of transistor Q4.", 14 DCT3 (out) "DC Termination 3. Provides dc termination to the telephone network.", 15 IGND (power) "Isolated Ground.Connects to ground on the line-side interface.", 16 DCT2 (out) "DC Termination 2. Provides dc termination to the telephone network"

## Si3018-F-FTR
designator U?
Programmable Voice DAA Solutions with Line Voltage Monitor, 0 to 70 degC, 16-pin SOP, Tape and Reel; Manufacturer: Silicon Labs; PartNumber: Si3018-F-FTR; AC Termination Settings: 4; Host Interface: GCI; PCM/SPI; Line Voltage Monitor: TRUE; Region: Global; Sub-Family: Silicon DAAs; DatasheetVersion: Rev. 1.5; PackageReference: TSSOP-16; PackageDescription: 16-Pin Thin Shrink Small-Outline Package, Body 5 x 4.4 mm, Pitch 0.65 mm; Packing: Tape and Reel; Mounting Technology: Surface Mount; Code_JEDEC: MO-153; Code_IPC: J-STD-020C; ComponentLink1Description: Manufacturer URL; ComponentLink1URL: http://www.silabs.com/; ComponentLink2Description: Datasheet; ComponentLink2URL: http://www.silabs.com/Support%20Documents/TechnicalDocs/Si3050-11-18-19.pdf; ComponentLink3Description: Package Specification; ComponentLink3URL: http://www.silabs.com/Support%20Documents/TechnicalDocs/Si53360.pdf
footprint SLAB-TSSOP-16_N (SOP, 16-Leads, Body 5.1x4.5mm, Pitch 0.65mm, IPC Medium Density)
footprint SLAB-TSSOP-16_L (SOP, 16-Leads, Body 5.1x4.5mm, Pitch 0.65mm, IPC High Density)
footprint SLAB-TSSOP-16_M (SOP, 16-Leads, Body 5.1x4.5mm, Pitch 0.65mm, IPC Low Density)
pins: 1 QE "Transistor Emitter. Connects to the emitter of Q3.", 2 DCT (out) "DC Termination. Provides dc termination to the telephone network.", 3 RX (in) "Receive Input. Serves as the receive side input from the telephone network.", 4 IB (in) "Internal Bias. Provides a bias voltage to the device.", 5 C1B "Isolation Capacitor 1B. Connects to one side of isolation capacitor C1. Used to communicate with the system-side device.", 6 C2B "Isolation Capacitor 2B. Connects to one side of isolation capacitor C2. Used to communicate with the system-side device.", 7 VREG (power) "Voltage Regulator. Connects to an external capacitor to provide bypassing for an internal power supply.", 8 RNG1 (in) "Ring 1. Connects through a resistor to the RING lead of the telephone line.", 9 RNG2 (in) "Ring 2. Connects through a resistor to the RING lead of the telephone line.", 10 VREG2 (power) "Voltage Regulator 2. Connects to an external capacitor to provide bypassing for an internal power supply.", 11 SC (in) "SC Connection. Enables external transistor network. Should be tied through a 0 ohm resistor to IGND.", 12 QE2 "Transistor Emitter 2. Connects to the emitter of Q4.", 13 QB (out) "Transistor Base. Connects to the base of transistor Q4.", 14 DCT3 (out) "DC Termination 3. Provides dc termination to the telephone network.", 15 IGND (power) "Isolated Ground.Connects to ground on the line-side interface.", 16 DCT2 (out) "DC Termination 2. Provides dc termination to the telephone network"

## Si3018-F-GM
designator U?
Programmable Voice DAA Solutions with Line Voltage Monitor, -40 to 85 degC, 20-pin QFN, Tube; Manufacturer: Silicon Labs; PartNumber: Si3018-F-GM; AC Termination Settings: 4; Host Interface: GCI; PCM/SPI; Line Voltage Monitor: TRUE; Region: Global; Sub-Family: Silicon DAAs; DatasheetVersion: Rev. 1.5; PackageReference: QFN-20; PackageDescription: 20-Pin Quad-Flat No-Leads Package, Body 3 x 3 mm, Pitch 0.5 mm; Packing: Tube; Mounting Technology: Surface Mount; Code_IPC: J-STD-020; ComponentLink1Description: Manufacturer URL; ComponentLink1URL: http://www.silabs.com/; ComponentLink2Description: Datasheet; ComponentLink2URL: http://www.silabs.com/Support%20Documents/TechnicalDocs/Si3050-11-18-19.pdf; ComponentLink3Description: Package Specification; ComponentLink3URL: http://www.silabs.com/Support%20Documents/TechnicalDocs/C8051F99x.pdf
footprint SLAB-QFN-20-1700x1700TP_V (QFN, 20-Leads, Body 3x3mm, Pitch 0.5mm, Thermal Pad 1.7x1.7mm)
part A pins: 2 RX (in) "Receive Input. Serves as the receive side input from the telephone network.", 3 IB (in) "Internal Bias. Provides a bias voltage to the device.", 4 C1B "Isolation Capacitor 1B. Connects to one side of isolation capacitor C1. Used to communicate with the system-side device.", 5 C2B "Isolation Capacitor 2B. Connects to one side of isolation capacitor C2. Used to communicate with the system-side device.", 6 VREG (power) "Voltage Regulator. Connects to an external capacitor to provide bypassing for an internal power supply.", 7 RNG1 (in) "Ring 1. Connects through a resistor to the TIP lead of the telephone line. Provides the ring and caller ID signals to the DAA.", 8 IGND (power) "Isolated Ground.Connects to ground on the line-side interface.", 9 RNG2 (in) "Ring 2. Connects through a resistor to the RING lead of the telephone line. Provides the ring and caller ID signals to the DAA.", 10 VREG2 (power) "Voltage Regulator 2. Connects to an external capacitor to provide bypassing for an internal power supply.", 12 SC (in) "SC Connection. Enables external transistor network. Should be tied through a 0 ohm resistor to IGND.", 13 QE2 "Transistor Emitter 2. Connects to the emitter of Q4.", 14 QB (out) "Transistor Base. Connects to the base of transistor Q4.", 15 DCT3 (out) "DC Termination 3. Provides dc termination to the telephone network.", 17 IGND (power) "Isolated Ground.Connects to ground on the line-side interface.", 18 DCT2 (out) "DC Termination 2. Provides dc termination to the telephone network", 19 QE "Transistor Emitter. Connects to the emitter of Q3.", 20 DCT (out) "DC Termination. Provides dc termination to the telephone network.", 21 IGND (power)
part B pins: 1 NC "No connect.", 11 NC "No connect.", 16 NC "No connect."

## Si3018-F-GMR
designator U?
Programmable Voice DAA Solutions with Line Voltage Monitor, -40 to 85 degC, 20-pin QFN, Tape and Reel; Manufacturer: Silicon Labs; PartNumber: Si3018-F-GMR; AC Termination Settings: 4; Host Interface: GCI; PCM/SPI; Line Voltage Monitor: TRUE; Region: Global; Sub-Family: Silicon DAAs; DatasheetVersion: Rev. 1.5; PackageReference: QFN-20; PackageDescription: 20-Pin Quad-Flat No-Leads Package, Body 3 x 3 mm, Pitch 0.5 mm; Packing: Tape and Reel; Mounting Technology: Surface Mount; Code_IPC: J-STD-020; ComponentLink1Description: Manufacturer URL; ComponentLink1URL: http://www.silabs.com/; ComponentLink2Description: Datasheet; ComponentLink2URL: http://www.silabs.com/Support%20Documents/TechnicalDocs/Si3050-11-18-19.pdf; ComponentLink3Description: Package Specification; ComponentLink3URL: http://www.silabs.com/Support%20Documents/TechnicalDocs/C8051F99x.pdf
footprint SLAB-QFN-20-1700x1700TP_V (QFN, 20-Leads, Body 3x3mm, Pitch 0.5mm, Thermal Pad 1.7x1.7mm)
part A pins: 2 RX (in) "Receive Input. Serves as the receive side input from the telephone network.", 3 IB (in) "Internal Bias. Provides a bias voltage to the device.", 4 C1B "Isolation Capacitor 1B. Connects to one side of isolation capacitor C1. Used to communicate with the system-side device.", 5 C2B "Isolation Capacitor 2B. Connects to one side of isolation capacitor C2. Used to communicate with the system-side device.", 6 VREG (power) "Voltage Regulator. Connects to an external capacitor to provide bypassing for an internal power supply.", 7 RNG1 (in) "Ring 1. Connects through a resistor to the TIP lead of the telephone line. Provides the ring and caller ID signals to the DAA.", 8 IGND (power) "Isolated Ground.Connects to ground on the line-side interface.", 9 RNG2 (in) "Ring 2. Connects through a resistor to the RING lead of the telephone line. Provides the ring and caller ID signals to the DAA.", 10 VREG2 (power) "Voltage Regulator 2. Connects to an external capacitor to provide bypassing for an internal power supply.", 12 SC (in) "SC Connection. Enables external transistor network. Should be tied through a 0 ohm resistor to IGND.", 13 QE2 "Transistor Emitter 2. Connects to the emitter of Q4.", 14 QB (out) "Transistor Base. Connects to the base of transistor Q4.", 15 DCT3 (out) "DC Termination 3. Provides dc termination to the telephone network.", 17 IGND (power) "Isolated Ground.Connects to ground on the line-side interface.", 18 DCT2 (out) "DC Termination 2. Provides dc termination to the telephone network", 19 QE "Transistor Emitter. Connects to the emitter of Q3.", 20 DCT (out) "DC Termination. Provides dc termination to the telephone network.", 21 IGND (power)
part B pins: 1 NC "No connect.", 11 NC "No connect.", 16 NC "No connect."